# Altium integrated library BLE-RF-BM.IntLib: 1 symbol
Pins are listed as number, name and electrical type; pins without a type are passive.

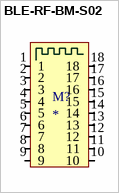
[diagram p0: symbol BLE-RF-BM-S02]

## BLE-RF-BM-S02
designator M?
BLE module RF-BM-S02
footprint BLE-RF-BM-S02 (Chip Array, Concave, 18-Leads, Pitch 1,27mm,  Body 11,20x11,20mm,  IPC Medium Density)
pins: 1, 2, 3, 4, 5, 6, 7, 8, 9, 10, 11, 12, 13, 14, 15, 16, 17, 18